# Altium footprint library Optics_LT.PcbLib: 1 footprints
Each footprint in its own frame and in the unit in brackets; x right, y up, seen from the top. Pads: shape width x height; smd on the part's side, far side on the other; paste and mask are expansions set on the pad; w line width, h text height; cw(c..) or ccw(c..) is an arc to the next point about the centre after c.
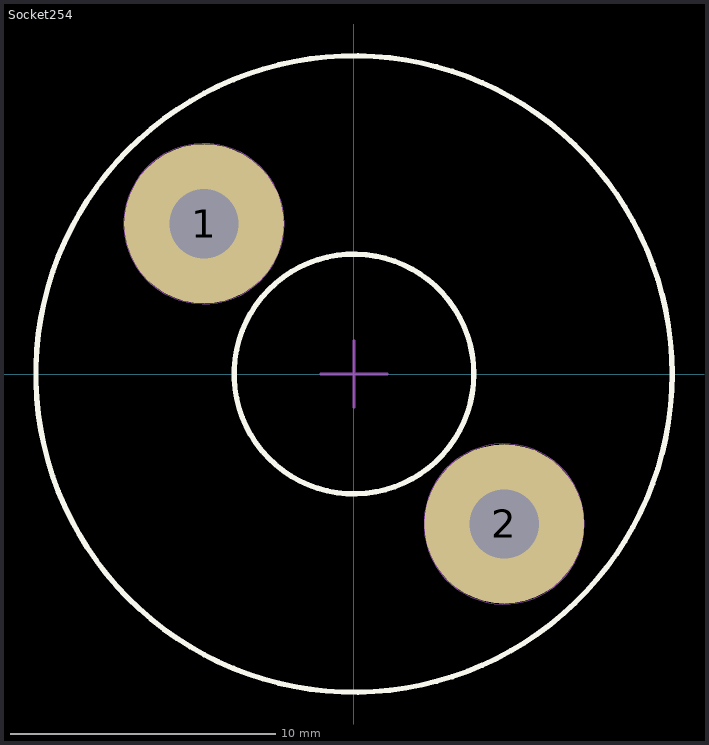
[diagram p0: the footprint, top view; thin cyan lines are the x and y axes]

## Socket254 [mil] "Socket for 1\" Filters, Diameter 28mm"
height 1181.1
pads (2):
  round 237 hole 103: 1(-222.71,223) 2(223,-222.71)
Top Overlay:
  circle w7.87: c0,0 r178
  circle w7.87: c0,0 r472.44
Mechanical 13:
  circle w3.94: c0,0 r472.44
  circle w3.94: c0,0 r177.17
  lines w3.94: -403.54,-246.06 -403.54,-246.06
Mechanical 15:
  lines w3.94: -49.21,0 49.21,0 ; 0,-49.21 0,49.21
Mechanical 16:
  circle w0: c-222.71,223 r119
  circle w0: c223,-222.71 r119
3D body "260638-001.stp": height 1008.35, standoff 0.48, extent -779.48,-779.49 779.49,779.49